# Altium schematic symbol library HC-49SM.SchLib: 1 symbol
Pins are listed as number, name and electrical type; pins without a type are passive.

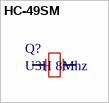
[diagram p0: symbol HC-49SM]

## HC-49SM
designator Q?, comment U3H 8Mhz
HC-49SM
footprint HC-49SM
footprint HC-49U (Quartz Crystal, Thru-Hole; 2 Leads; Body 11.35 x 4.65 x 13.46 mm (LxWxH max))
pins: 1, 2